# EAGLE library part 74HC165D,653 (library pimoroni-ics)
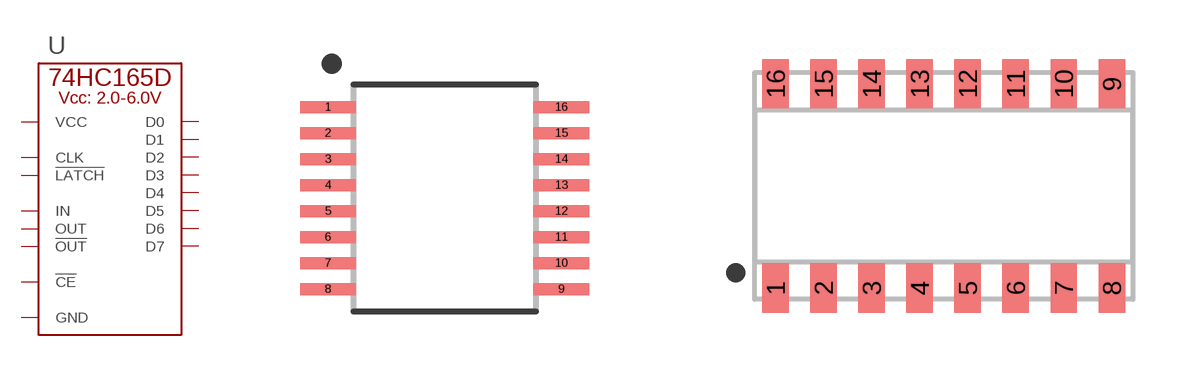
[diagram p162: symbol with the pads of TSSOP-16; footprints TSSOP-16, SOP-16-1.27MM]

Designator prefix U

## 74HC165D,653  [TSSOP-16]
1  !LATCH
2  CLK
3  D4
4  D5
5  D6
6  D7
7  !OUT
8  GND
9  OUT
10  IN
11  D0
12  D1
13  D2
14  D3
15  !CE
16  VCC

## 74HC165D,653_SO16  [SOP-16-1.27MM]
Pads as for TSSOP-16

## Footprint TSSOP-16 (pad centres in mm)
smd 1.4 x 0.3: 1 -2.918,2.275; 2 -2.918,1.625; 3 -2.918,0.975; 4 -2.918,0.325; 5 -2.918,-0.325; 6 -2.918,-0.975; 7 -2.918,-1.625; 8 -2.918,-2.275; 9 2.918,-2.275; 10 2.918,-1.625; 11 2.918,-0.975; 12 2.918,-0.325; 13 2.918,0.325; 14 2.918,0.975; 15 2.918,1.625; 16 2.918,2.275

## Footprint SOP-16-1.27MM (pad centres in mm)
smd 0.7 x 1.3: 1 -4.445,-2.7; 2 -3.175,-2.7; 3 -1.905,-2.7; 4 -0.635,-2.7; 5 0.635,-2.7; 6 1.905,-2.7; 7 3.175,-2.7; 8 4.445,-2.7; 9 4.445,2.7; 10 3.175,2.7; 11 1.905,2.7; 12 0.635,2.7; 13 -0.635,2.7; 14 -1.905,2.7; 15 -3.175,2.7; 16 -4.445,2.7